# EAGLE library part SN74LVC2T (library aoba)
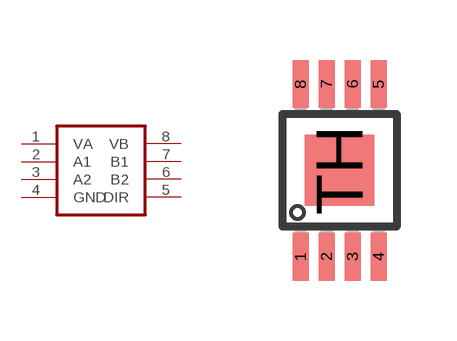
[diagram p6: symbol with the pads of SN74LVC2T; footprint SN74LVC2T]

Designator prefix -

## SN74LVC2T  [SN74LVC2T]
1  VA
2  A1
3  A2
4  GND
5  DIR
6  B2
7  B1
8  VB

## Footprint SN74LVC2T (pad centres in mm)
smd 0.4 x 1.2: 1 -1.615,-2.462; 2 -0.965,-2.462; 3 -0.315,-2.462; 4 0.335,-2.462; 5 0.335,1.852; 6 -0.315,1.852; 7 -0.965,1.852; 8 -1.615,1.852
smd 1.73 x 1.78: TH -0.64,-0.305